# Altium footprint library 36900000.PcbLib: 1 footprints
Each footprint in its own frame and in the unit in brackets; x right, y up, seen from the top. Pads: shape width x height; smd on the part's side, far side on the other; paste and mask are expansions set on the pad; w line width, h text height; cw(c..) or ccw(c..) is an arc to the next point about the centre after c.
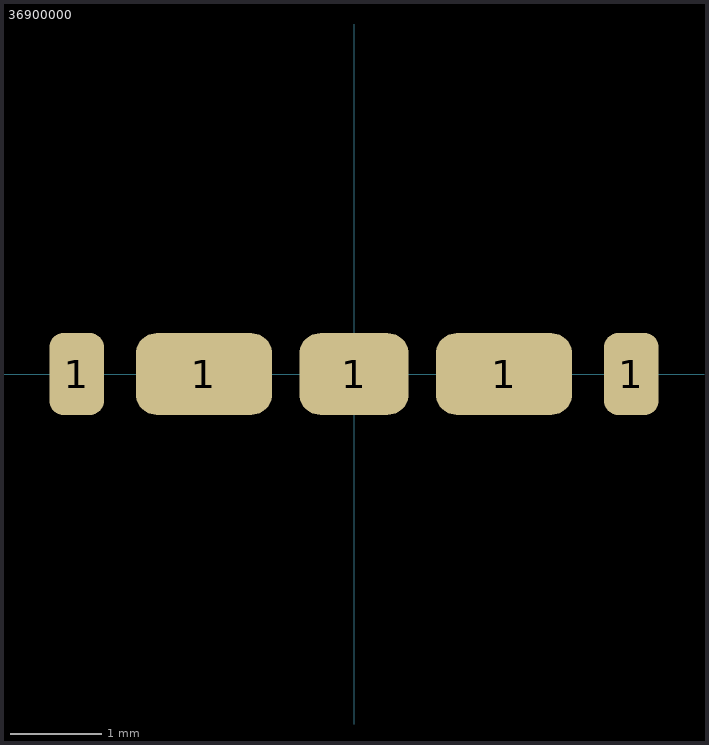
[diagram p0: the footprint, top view; thin cyan lines are the x and y axes]

## 36900000 [mm]
pads (5):
  rrect50% 0.6x0.9 smd mask+0.05: 1(-3.05,0) 1(3.05,0)
  rrect50% 1.5x0.9 smd mask+0.05: 1(-1.65,0) 1(1.65,0)
  rrect50% 1.2x0.9 smd mask+0.05: 1(0,0)
3D body "Download_STP_WE-SHC-36900000 (rev1).stp": height 1.28, standoff 0, extent -3.25,-0.41 3.25,0.41